# Altium schematic symbol library AD7091R-8.SchLib: 1 symbol
Pins are listed as number, name and electrical type; pins without a type are passive.

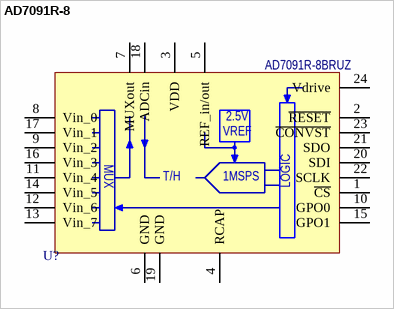
[diagram p0: symbol AD7091R-8]

## AD7091R-8
designator U?, comment AD7091R-8BRUZ
8-Channel, 1 MSPS, Ultralow Power, 12-Bit SAR ADC; Pkg: TSSOP-24; Soldering number: 24; Потребление, Вт: 0.002; Part Number: AD7091R-8BRUZ; Mount: Mount; MountType: SMD; ComponentLink1Description: DataSheet; ComponentLink1URL: https://www.analog.com/media/en/technical-documentation/data-sheets/AD7091R-2_7091R-4_7091R-8.pdf; Назначение: 8-Channel, 1 MSPS, Ultralow Power, 12-Bit SAR ADC; Наименование: AD7091R-8BRUZ
footprint TSSOP-24
pins: 1 ~{CS}, 2 ~{RESET}, 3 VDD, 4 RCAP, 5 REF_in/out, 6 GND, 7 MUXout, 8 Vin_0, 9 Vin_2, 10 GPO0 "ALERT/BUSY/GPO0", 11 Vin_4, 12 Vin_6, 13 Vin_7, 14 Vin_5, 15 GPO1, 16 Vin_3, 17 Vin_1, 18 ADCin, 19 GND, 20 SDI, 21 SDO, 22 SCLK, 23 ~{CONVST}, 24 Vdrive
text: 2.5V; VREF; MUX; T/H; 1MSPS; LOGIC